# Altium schematic symbol library R-CRCW06030R00FKEA.Schlib: 1 symbol
Pins are listed as number, name and electrical type; pins without a type are passive.

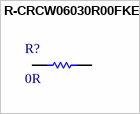
[diagram p0: symbol R-CRCW06030R00FKEA]

## R-CRCW06030R00FKEA
designator R?, comment 0R
Thick Film Resistors - SMD 0 Ohms
pins: 1, 2